# EAGLE library part W25Q80DVSNIG (library W25Q80DVSNIG)
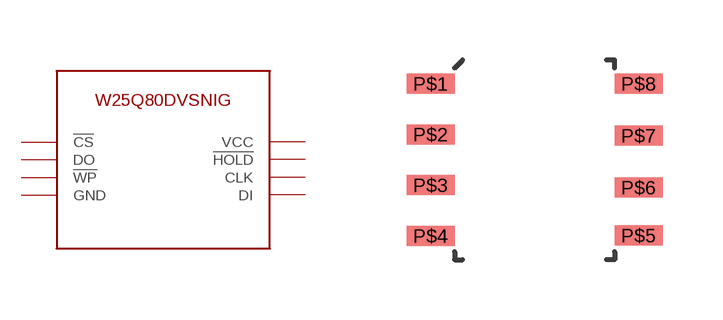
[diagram p0: symbol with the pads of W25Q80DVSNIG; footprint W25Q80DVSNIG]

Designator prefix U

## W25Q80DVSNIG  [W25Q80DVSNIG]
P$1  !CS
P$2  DO
P$3  !WP
P$4  GND
P$5  DI
P$6  CLK
P$7  !HOLD
P$8  VCC

## Footprint W25Q80DVSNIG (pad centres in mm)
smd 1.2 x 0.5: P$1 -2.6,1.905; P$2 -2.6,0.635; P$3 -2.6,-0.635; P$4 -2.6,-1.905; P$5 2.6,-1.895; P$6 2.6,-0.695; P$7 2.6,0.605; P$8 2.6,1.905